# Altium schematic symbol library CD4013.Schlib: 1 symbol
Pins are listed as number, name and electrical type; pins without a type are passive.

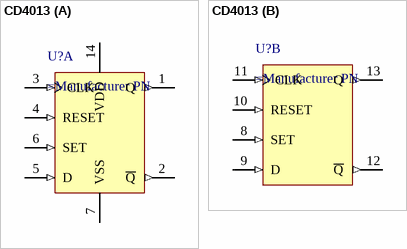
[diagram p0: symbol CD4013]

## CD4013
designator U?
Dual D Flip-Flop
part A pins: 1 Q (out), 2 ~{Q} (out), 3 CLK (in), 4 RESET (in), 5 D (in), 6 SET (in), 7 VSS (power), 14 VDD (power)
part B pins: 8 SET (in), 9 D (in), 10 RESET (in), 11 CLK (in), 12 ~{Q} (out), 13 Q (out)